# EAGLE library part PCM5102A (library ICs)
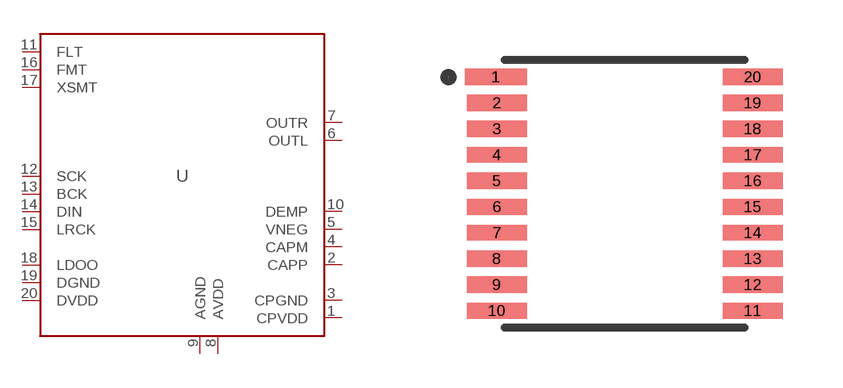
[diagram p22: symbol with the pads of TSSOP20; footprint TSSOP20]

Designator prefix -

## PCM5102A  [TSSOP20]
1  CPVDD  pwr
2  CAPP  out
3  CPGND
4  CAPM  out
5  VNEG  out
6  OUTL  out
7  OUTR  out
8  AVDD  pwr
9  AGND
10  DEMP  in
11  FLT
12  SCK  in
13  BCK  in
14  DIN  in
15  LRCK  in
16  FMT  in
17  XSMT  in
18  LDOO  pwr
19  DGND
20  DVDD  pwr

## Footprint TSSOP20 (pad centres in mm)
smd 1.55 x 0.4: 1 -3.225,2.925
smd 1.5 x 0.4: 2 -3.2,2.275; 3 -3.2,1.625; 4 -3.2,0.975; 5 -3.2,0.325; 6 -3.2,-0.325; 7 -3.2,-0.975; 8 -3.2,-1.625; 9 -3.2,-2.275; 10 -3.2,-2.925; 11 3.2,-2.925; 12 3.2,-2.275; 13 3.2,-1.625; 14 3.2,-0.975; 15 3.2,-0.325; 16 3.2,0.325; 17 3.2,0.975; 18 3.2,1.625; 19 3.2,2.275; 20 3.2,2.925